# EAGLE library part ADXL343 (library bschulz)
ADXL343 - Digital Accelerometer(I2C/SPI) Characteristics: Vcc: 2V ~ 3.6V Acceleration Range: ±2g, ±4g, ±8g, ±16g Sensitivity: 256 ~ 32 LSB/g (±2g ~ ± 16g) Bandwidth: 0.05Hz ~ 1.6kHz Operating Temperature: -40°C to 85°C Digikey: ADXL343BCCZ-ND <https://www.digikey.com/product-detail/en/analog-devices-inc/ADXL343BCCZ/ADXL343BCCZ-ND/3542918>
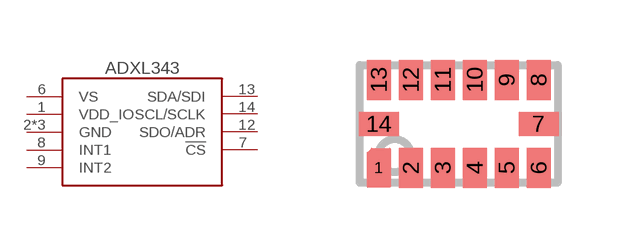
[diagram p44: symbol with the pads of LGA-14; footprint LGA-14]

Designator prefix U

## ADXL343 (DIGIKEY: ADXL343BCCZ-ND; MF: Analog Devices; MPN: ADXL343BCCZ)  [LGA-14]
1  VDD_IO  pwr
2  GND  pwr
4  GND  pwr
5  GND  pwr
6  VS  pwr
7  !CS
8  INT1
9  INT2
12  SDO/ADR
13  SDA/SDI
14  SCL/SCLK

## Footprint LGA-14 (pad centres in mm)
LGA 3x5x1 14L Land Grid Array Package Source: DM00027543-118326.pdf
smd 0.4 x 0.4: 1 -2,-1.1
smd 0.6 x 1: 2 -1.2,-1.1; 3 -0.4,-1.1; 4 0.4,-1.1; 5 1.2,-1.1; 6 2,-1.1; 8 2,1.1; 9 1.2,1.1; 10 0.4,1.1; 11 -0.4,1.1; 12 -1.2,1.1; 13 -2,1.1
smd 1 x 0.6: 7 2,0; 14 -2,0